# EAGLE library part 8085AH (library micro-siemens)
MICROPROCESSOR/PERIPHERAL DEVICE
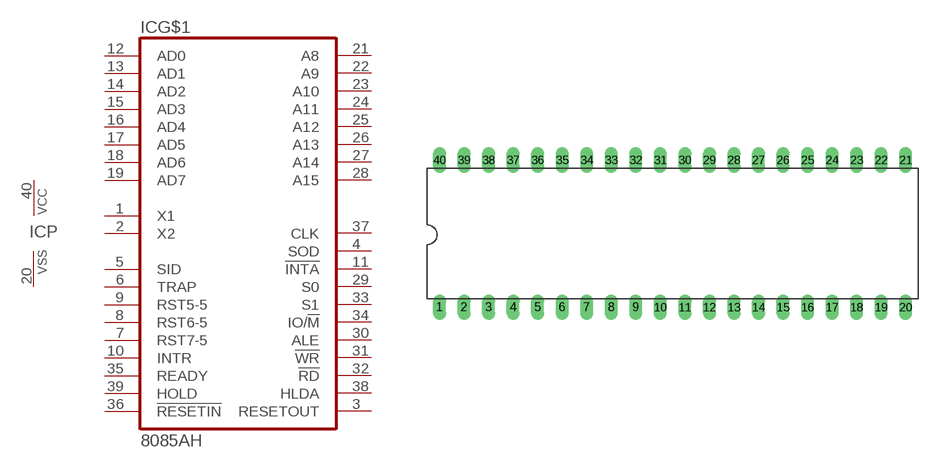
[diagram p30: symbol with the pads of DIL40; footprint DIL40]

Designator prefix IC; gates G$1=8085AH P=VCCVSS

## 8085AH (OC_FARNELL: unknown; OC_NEWARK: unknown)  [DIL40]
1  G$1:X1  in
2  G$1:X2  in
3  G$1:RESETOUT  out
4  G$1:SOD  out
5  G$1:SID  in
6  G$1:TRAP  in
7  G$1:RST7-5  in
8  G$1:RST6-5  in
9  G$1:RST5-5  in
10  G$1:INTR  in
11  G$1:!INTA  out
12  G$1:AD0
13  G$1:AD1
14  G$1:AD2
15  G$1:AD3
16  G$1:AD4
17  G$1:AD5
18  G$1:AD6
19  G$1:AD7
20  P:VSS  pwr
21  G$1:A8  out
22  G$1:A9  out
23  G$1:A10  out
24  G$1:A11  out
25  G$1:A12  out
26  G$1:A13  out
27  G$1:A14  out
28  G$1:A15  out
29  G$1:S0  out
30  G$1:ALE  out
31  G$1:!WR  out
32  G$1:!RD  out
33  G$1:S1  out
34  G$1:IO/!M  out
35  G$1:READY  in
36  G$1:!RESETIN  in
37  G$1:CLK  out
38  G$1:HLDA  out
39  G$1:HOLD  in
40  P:VCC  pwr

## Footprint DIL40 (pad centres in mm)
Dual In Line Package
drill 0.813 long: 1 -24.13,-7.62; 2 -21.59,-7.62; 3 -19.05,-7.62; 4 -16.51,-7.62; 5 -13.97,-7.62; 6 -11.43,-7.62; 7 -8.89,-7.62; 8 -6.35,-7.62; 9 -3.81,-7.62; 10 -1.27,-7.62; 11 1.27,-7.62; 12 3.81,-7.62; 13 6.35,-7.62; 14 8.89,-7.62; 15 11.43,-7.62; 16 13.97,-7.62; 17 16.51,-7.62; 18 19.05,-7.62; 19 21.59,-7.62; 20 24.13,-7.62; 21 24.13,7.62; 22 21.59,7.62; 23 19.05,7.62; 24 16.51,7.62; 25 13.97,7.62; 26 11.43,7.62; 27 8.89,7.62; 28 6.35,7.62; 29 3.81,7.62; 30 1.27,7.62; 31 -1.27,7.62; 32 -3.81,7.62; 33 -6.35,7.62; 34 -8.89,7.62; 35 -11.43,7.62; 36 -13.97,7.62; 37 -16.51,7.62; 38 -19.05,7.62; 39 -21.59,7.62; 40 -24.13,7.62